# EAGLE library part AS1122 (library wheat)
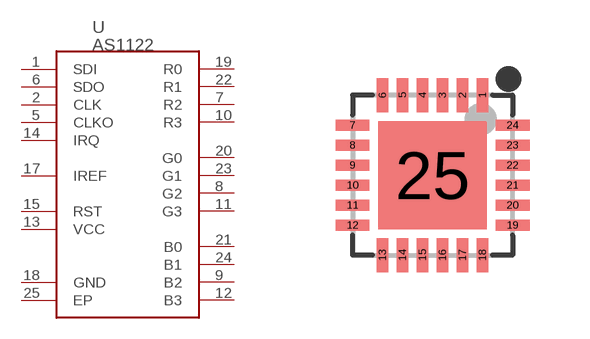
[diagram p215: symbol with the pads of QFN24_4X4; footprint QFN24_4X4]

Designator prefix U

## AS1122  [QFN24_4X4]
1  SDI  in
2  CLK  in
5  CLKO  in
6  SDO  out
7  R2  oc
8  G2  oc
9  B2  oc
10  R3  oc
11  G3  oc
12  B3  oc
13  VCC  pas
14  IRQ  in
15  RST  pas
17  IREF  pas
18  GND  pas
19  R0  oc
20  G0  oc
21  B0  oc
22  R1  oc
23  G1  oc
24  B1  oc
25  EP  pas

## Footprint QFN24_4X4 (pad centres in mm)
smd 0.28 x 0.85: 1 1.25,2; 2 0.75,2; 3 0.25,2; 4 -0.25,2; 5 -0.75,2; 6 -1.25,2; 13 -1.25,-2; 14 -0.75,-2; 15 -0.25,-2; 16 0.25,-2; 17 0.75,-2; 18 1.25,-2
smd 0.85 x 0.28: 7 -2,1.25; 8 -2,0.75; 9 -2,0.25; 10 -2,-0.25; 11 -2,-0.75; 12 -2,-1.25; 19 2,-1.25; 20 2,-0.75; 21 2,-0.25; 22 2,0.25; 23 2,0.75; 24 2,1.25
smd 2.7 x 2.7: 25 0,0